# Altium integrated library ON Semi Signal Management Digital POTs.IntLib: 284 symbols (part 7 of 11)
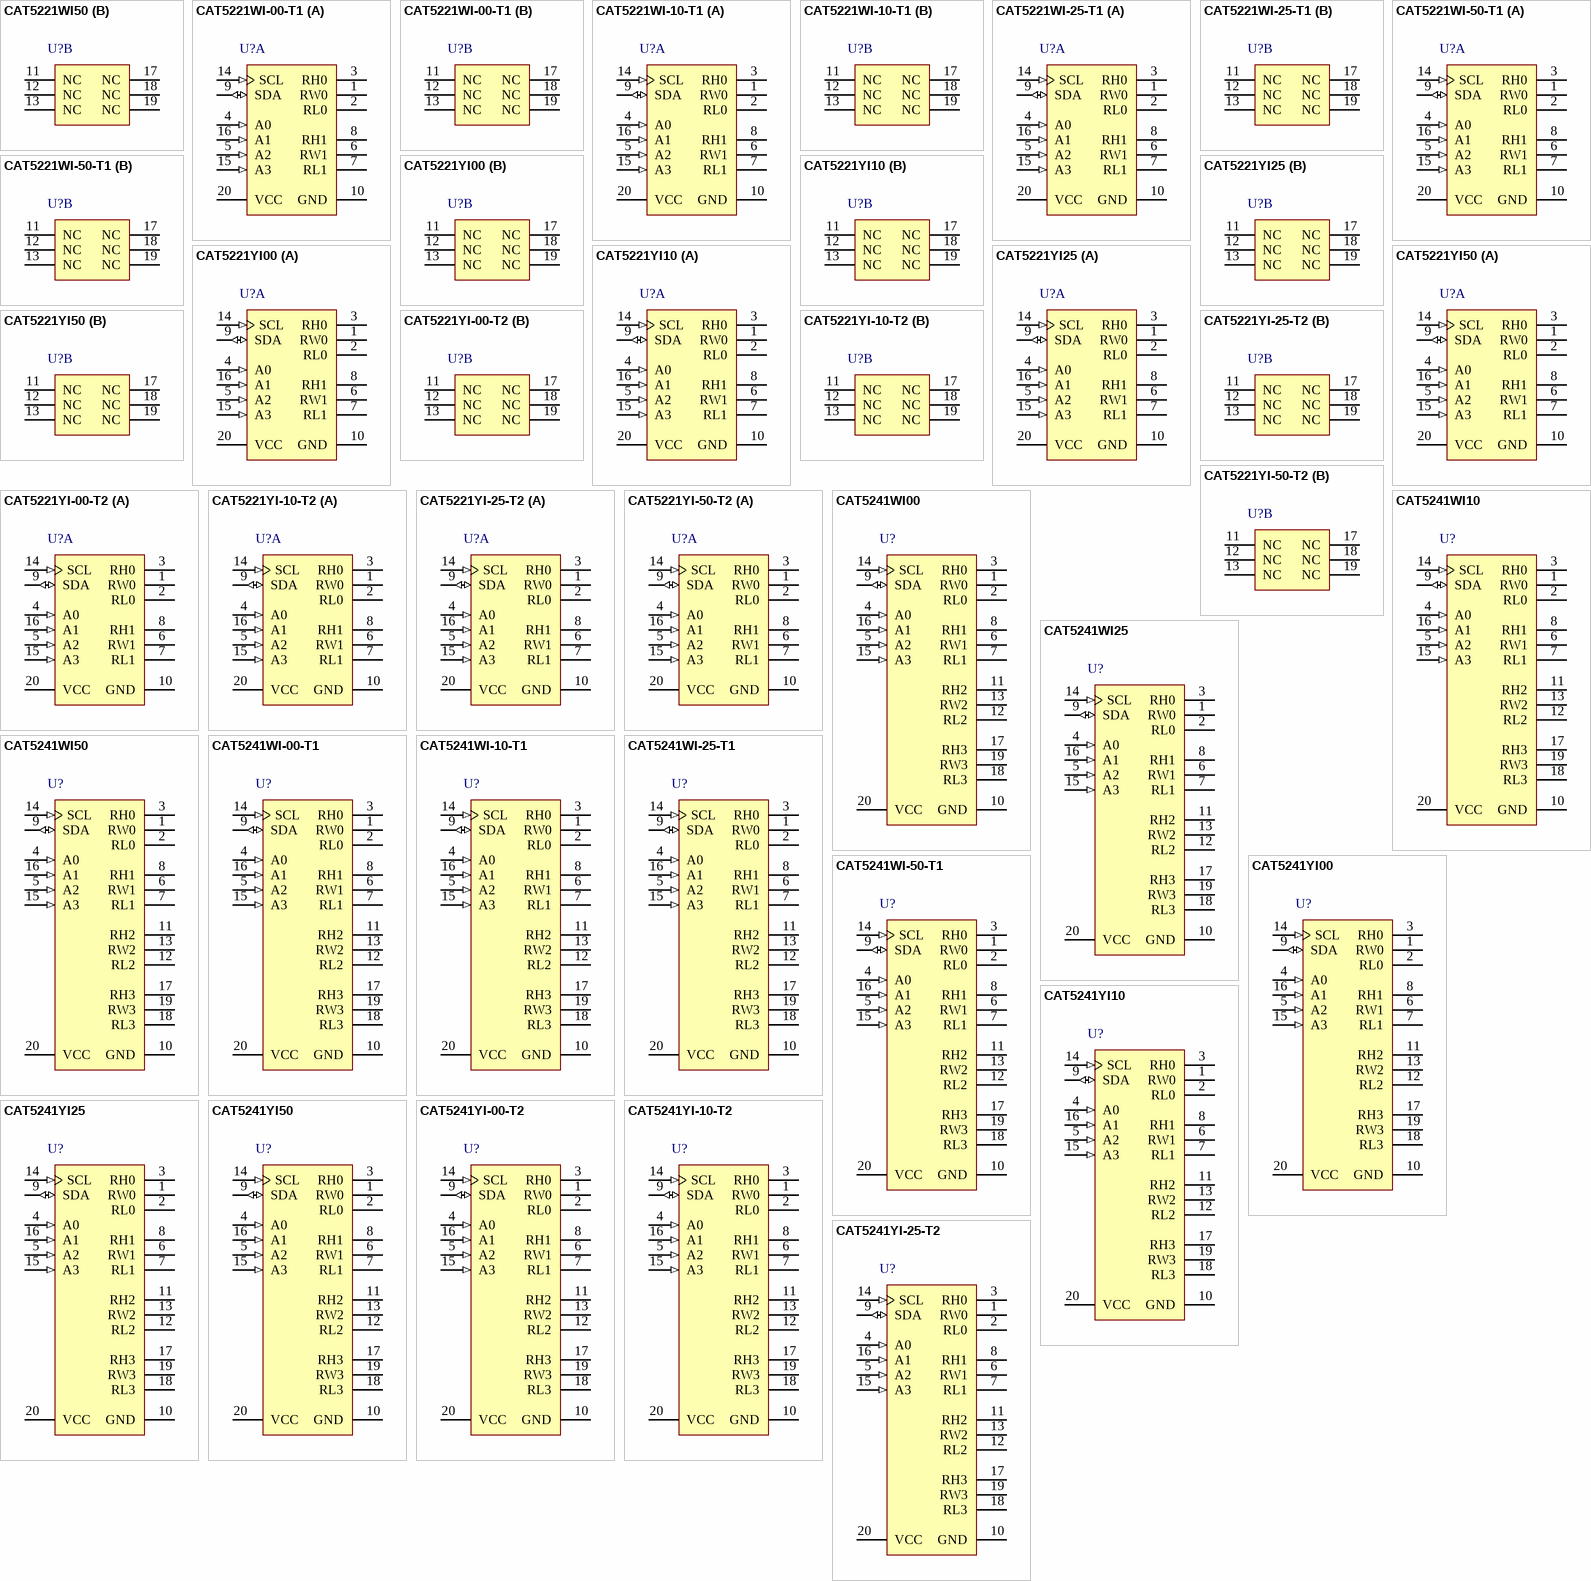
[diagram p15: symbols CAT5221WI50 to CAT5241YI-25-T2]

## CAT5241YI25
designator U?
Quad Digital Potentiometer (POT) with 64 Tap and I2C Interface, -40 to 85 degC, 20-Pin TSSOP, Pb-Free, Tube; Manufacturer: On Semiconductor; PartNumber: CAT5241YI25; # of Pots: 4; # of Taps: 64; VDD Max (V): 6; DatasheetVersion: Rev. 20; PackageVersion: Rev. A, 03/2009; PackageReference: TSSOP-20-948AQ-01; PackageDescription: 20-Pin Small Outline Package, Body 6.5 x 4.4 mm, Pitch 0.65 mm; Supplier 1: Mouser; Supplier Part Number 1: 698-CAT5241YI-25; Control Interface: I2C; Packing: Tube; RoHS: TRUE; Type: Potentiometer; Mounting Technology: Surface Mount; Code_JEDEC: MO-153; ComponentLink1Description: Manufacturer URL; ComponentLink1URL: http://www.onsemi.com/; ComponentLink2Description: Datasheet; ComponentLink2URL: http://www.onsemi.cn/pub_link/Collateral/CAT5241-D.PDF; ComponentLink3Description: Package Specification; ComponentLink3URL: http://www.onsemi.cn/pub_link/Collateral/948AQ.PDF
footprint ONSC-TSSOP-20-948AQ-01_N (SOP, 20-Leads, Body 6.6x4.5mm, Pitch 0.65mm, IPC Medium Density)
footprint ONSC-TSSOP-20-948AQ-01_L (SOP, 20-Leads, Body 6.6x4.5mm, Pitch 0.65mm, IPC High Density)
footprint ONSC-TSSOP-20-948AQ-01_M (SOP, 20-Leads, Body 6.6x4.5mm, Pitch 0.65mm, IPC Low Density)
pins: 1 RW0 "Wiper Terminal for Potentiometer 0", 2 RL0 "Low Reference Terminal for Potentiometer 0", 3 RH0 "High Reference Terminal for Potentiometer 0", 4 A0 (in) "Device Address, LSB", 5 A2 (in) "Device Address", 6 RW1 "Wiper Terminal for Potentiometer 1", 7 RL1 "Low Reference Terminal for Potentiometer 1", 8 RH1 "High Reference Terminal for Potentiometer 1", 9 SDA (io) "Serial Data Input/Output", 10 GND (power) "Ground", 11 RH2 "High Reference Terminal for Potentiometer 2", 12 RL2 "Low Reference Terminal for Potentiometer 2", 13 RW2 "Wiper Terminal forPotentiometer 2", 14 SCL (in) "Bus Serial Clock", 15 A3 (in) "Device Address", 16 A1 (in) "Device Address", 17 RH3 "High Reference Terminal for Potentiometer 3", 18 RL3 "Low Reference Terminal for Potentiometer 3", 19 RW3 "Wiper Terminal for Potentiometer 3", 20 VCC (power) "Supply Voltage"

## CAT5241YI50
designator U?
Quad Digital Potentiometer (POT) with 64 Tap and I2C Interface, -40 to 85 degC, 20-Pin TSSOP, Pb-Free, Tube; Manufacturer: On Semiconductor; PartNumber: CAT5241YI50; # of Pots: 4; # of Taps: 64; VDD Max (V): 6; DatasheetVersion: Rev. 20; PackageVersion: Rev. A, 03/2009; PackageReference: TSSOP-20-948AQ-01; PackageDescription: 20-Pin Small Outline Package, Body 6.5 x 4.4 mm, Pitch 0.65 mm; Supplier 1: Mouser; Supplier Part Number 1: 698-CAT5241YI-50; Control Interface: I2C; Packing: Tube; RoHS: TRUE; Type: Potentiometer; Mounting Technology: Surface Mount; Code_JEDEC: MO-153; ComponentLink1Description: Manufacturer URL; ComponentLink1URL: http://www.onsemi.com/; ComponentLink2Description: Datasheet; ComponentLink2URL: http://www.onsemi.cn/pub_link/Collateral/CAT5241-D.PDF; ComponentLink3Description: Package Specification; ComponentLink3URL: http://www.onsemi.cn/pub_link/Collateral/948AQ.PDF
footprint ONSC-TSSOP-20-948AQ-01_N (SOP, 20-Leads, Body 6.6x4.5mm, Pitch 0.65mm, IPC Medium Density)
footprint ONSC-TSSOP-20-948AQ-01_L (SOP, 20-Leads, Body 6.6x4.5mm, Pitch 0.65mm, IPC High Density)
footprint ONSC-TSSOP-20-948AQ-01_M (SOP, 20-Leads, Body 6.6x4.5mm, Pitch 0.65mm, IPC Low Density)
pins: 1 RW0 "Wiper Terminal for Potentiometer 0", 2 RL0 "Low Reference Terminal for Potentiometer 0", 3 RH0 "High Reference Terminal for Potentiometer 0", 4 A0 (in) "Device Address, LSB", 5 A2 (in) "Device Address", 6 RW1 "Wiper Terminal for Potentiometer 1", 7 RL1 "Low Reference Terminal for Potentiometer 1", 8 RH1 "High Reference Terminal for Potentiometer 1", 9 SDA (io) "Serial Data Input/Output", 10 GND (power) "Ground", 11 RH2 "High Reference Terminal for Potentiometer 2", 12 RL2 "Low Reference Terminal for Potentiometer 2", 13 RW2 "Wiper Terminal forPotentiometer 2", 14 SCL (in) "Bus Serial Clock", 15 A3 (in) "Device Address", 16 A1 (in) "Device Address", 17 RH3 "High Reference Terminal for Potentiometer 3", 18 RL3 "Low Reference Terminal for Potentiometer 3", 19 RW3 "Wiper Terminal for Potentiometer 3", 20 VCC (power) "Supply Voltage"

## CAT5241YI-00-T2
designator U?
Quad Digital Potentiometer (POT) with 64 Tap and I2C Interface, -40 to 85 degC, 20-Pin TSSOP, Pb-Free, Tape and Reel; Manufacturer: On Semiconductor; PartNumber: CAT5241YI-00-T2; # of Pots: 4; # of Taps: 64; VDD Max (V): 6; DatasheetVersion: Rev. 20; PackageVersion: Rev. A, 03/2009; PackageReference: TSSOP-20-948AQ-01; PackageDescription: 20-Pin Small Outline Package, Body 6.5 x 4.4 mm, Pitch 0.65 mm; Supplier 1: Mouser; Supplier Part Number 1: 863-CAT5241YI-00-T2; Control Interface: I2C; Packing: Tape and Reel; RoHS: TRUE; Type: Potentiometer; Mounting Technology: Surface Mount; Code_JEDEC: MO-153; ComponentLink1Description: Manufacturer URL; ComponentLink1URL: http://www.onsemi.com/; ComponentLink2Description: Datasheet; ComponentLink2URL: http://www.onsemi.cn/pub_link/Collateral/CAT5241-D.PDF; ComponentLink3Description: Package Specification; ComponentLink3URL: http://www.onsemi.cn/pub_link/Collateral/948AQ.PDF
footprint ONSC-TSSOP-20-948AQ-01_N (SOP, 20-Leads, Body 6.6x4.5mm, Pitch 0.65mm, IPC Medium Density)
footprint ONSC-TSSOP-20-948AQ-01_L (SOP, 20-Leads, Body 6.6x4.5mm, Pitch 0.65mm, IPC High Density)
footprint ONSC-TSSOP-20-948AQ-01_M (SOP, 20-Leads, Body 6.6x4.5mm, Pitch 0.65mm, IPC Low Density)
pins: 1 RW0 "Wiper Terminal for Potentiometer 0", 2 RL0 "Low Reference Terminal for Potentiometer 0", 3 RH0 "High Reference Terminal for Potentiometer 0", 4 A0 (in) "Device Address, LSB", 5 A2 (in) "Device Address", 6 RW1 "Wiper Terminal for Potentiometer 1", 7 RL1 "Low Reference Terminal for Potentiometer 1", 8 RH1 "High Reference Terminal for Potentiometer 1", 9 SDA (io) "Serial Data Input/Output", 10 GND (power) "Ground", 11 RH2 "High Reference Terminal for Potentiometer 2", 12 RL2 "Low Reference Terminal for Potentiometer 2", 13 RW2 "Wiper Terminal forPotentiometer 2", 14 SCL (in) "Bus Serial Clock", 15 A3 (in) "Device Address", 16 A1 (in) "Device Address", 17 RH3 "High Reference Terminal for Potentiometer 3", 18 RL3 "Low Reference Terminal for Potentiometer 3", 19 RW3 "Wiper Terminal for Potentiometer 3", 20 VCC (power) "Supply Voltage"

## CAT5241YI-10-T2
designator U?
Quad Digital Potentiometer (POT) with 64 Tap and I2C Interface, -40 to 85 degC, 20-Pin TSSOP, Pb-Free, Tape and Reel; Manufacturer: On Semiconductor; PartNumber: CAT5241YI-10-T2; # of Pots: 4; # of Taps: 64; VDD Max (V): 6; DatasheetVersion: Rev. 20; PackageVersion: Rev. A, 03/2009; PackageReference: TSSOP-20-948AQ-01; PackageDescription: 20-Pin Small Outline Package, Body 6.5 x 4.4 mm, Pitch 0.65 mm; Supplier 1: Mouser; Supplier Part Number 1: 863-CAT5241YI-10-T2; Control Interface: I2C; Packing: Tape and Reel; RoHS: TRUE; Type: Potentiometer; Mounting Technology: Surface Mount; Code_JEDEC: MO-153; ComponentLink1Description: Manufacturer URL; ComponentLink1URL: http://www.onsemi.com/; ComponentLink2Description: Datasheet; ComponentLink2URL: http://www.onsemi.cn/pub_link/Collateral/CAT5241-D.PDF; ComponentLink3Description: Package Specification; ComponentLink3URL: http://www.onsemi.cn/pub_link/Collateral/948AQ.PDF
footprint ONSC-TSSOP-20-948AQ-01_N (SOP, 20-Leads, Body 6.6x4.5mm, Pitch 0.65mm, IPC Medium Density)
footprint ONSC-TSSOP-20-948AQ-01_L (SOP, 20-Leads, Body 6.6x4.5mm, Pitch 0.65mm, IPC High Density)
footprint ONSC-TSSOP-20-948AQ-01_M (SOP, 20-Leads, Body 6.6x4.5mm, Pitch 0.65mm, IPC Low Density)
pins: 1 RW0 "Wiper Terminal for Potentiometer 0", 2 RL0 "Low Reference Terminal for Potentiometer 0", 3 RH0 "High Reference Terminal for Potentiometer 0", 4 A0 (in) "Device Address, LSB", 5 A2 (in) "Device Address", 6 RW1 "Wiper Terminal for Potentiometer 1", 7 RL1 "Low Reference Terminal for Potentiometer 1", 8 RH1 "High Reference Terminal for Potentiometer 1", 9 SDA (io) "Serial Data Input/Output", 10 GND (power) "Ground", 11 RH2 "High Reference Terminal for Potentiometer 2", 12 RL2 "Low Reference Terminal for Potentiometer 2", 13 RW2 "Wiper Terminal forPotentiometer 2", 14 SCL (in) "Bus Serial Clock", 15 A3 (in) "Device Address", 16 A1 (in) "Device Address", 17 RH3 "High Reference Terminal for Potentiometer 3", 18 RL3 "Low Reference Terminal for Potentiometer 3", 19 RW3 "Wiper Terminal for Potentiometer 3", 20 VCC (power) "Supply Voltage"

## CAT5241YI-25-T2
designator U?
Quad Digital Potentiometer (POT) with 64 Tap and I2C Interface, -40 to 85 degC, 20-Pin TSSOP, Pb-Free, Tape and Reel; Manufacturer: On Semiconductor; PartNumber: CAT5241YI-25-T2; # of Pots: 4; # of Taps: 64; VDD Max (V): 6; DatasheetVersion: Rev. 20; PackageVersion: Rev. A, 03/2009; PackageReference: TSSOP-20-948AQ-01; PackageDescription: 20-Pin Small Outline Package, Body 6.5 x 4.4 mm, Pitch 0.65 mm; Supplier 1: Mouser; Supplier Part Number 1: 863-CAT5241YI-25-T2; Control Interface: I2C; Packing: Tape and Reel; RoHS: TRUE; Type: Potentiometer; Mounting Technology: Surface Mount; Code_JEDEC: MO-153; ComponentLink1Description: Manufacturer URL; ComponentLink1URL: http://www.onsemi.com/; ComponentLink2Description: Datasheet; ComponentLink2URL: http://www.onsemi.cn/pub_link/Collateral/CAT5241-D.PDF; ComponentLink3Description: Package Specification; ComponentLink3URL: http://www.onsemi.cn/pub_link/Collateral/948AQ.PDF
footprint ONSC-TSSOP-20-948AQ-01_N (SOP, 20-Leads, Body 6.6x4.5mm, Pitch 0.65mm, IPC Medium Density)
footprint ONSC-TSSOP-20-948AQ-01_L (SOP, 20-Leads, Body 6.6x4.5mm, Pitch 0.65mm, IPC High Density)
footprint ONSC-TSSOP-20-948AQ-01_M (SOP, 20-Leads, Body 6.6x4.5mm, Pitch 0.65mm, IPC Low Density)
pins: 1 RW0 "Wiper Terminal for Potentiometer 0", 2 RL0 "Low Reference Terminal for Potentiometer 0", 3 RH0 "High Reference Terminal for Potentiometer 0", 4 A0 (in) "Device Address, LSB", 5 A2 (in) "Device Address", 6 RW1 "Wiper Terminal for Potentiometer 1", 7 RL1 "Low Reference Terminal for Potentiometer 1", 8 RH1 "High Reference Terminal for Potentiometer 1", 9 SDA (io) "Serial Data Input/Output", 10 GND (power) "Ground", 11 RH2 "High Reference Terminal for Potentiometer 2", 12 RL2 "Low Reference Terminal for Potentiometer 2", 13 RW2 "Wiper Terminal forPotentiometer 2", 14 SCL (in) "Bus Serial Clock", 15 A3 (in) "Device Address", 16 A1 (in) "Device Address", 17 RH3 "High Reference Terminal for Potentiometer 3", 18 RL3 "Low Reference Terminal for Potentiometer 3", 19 RW3 "Wiper Terminal for Potentiometer 3", 20 VCC (power) "Supply Voltage"

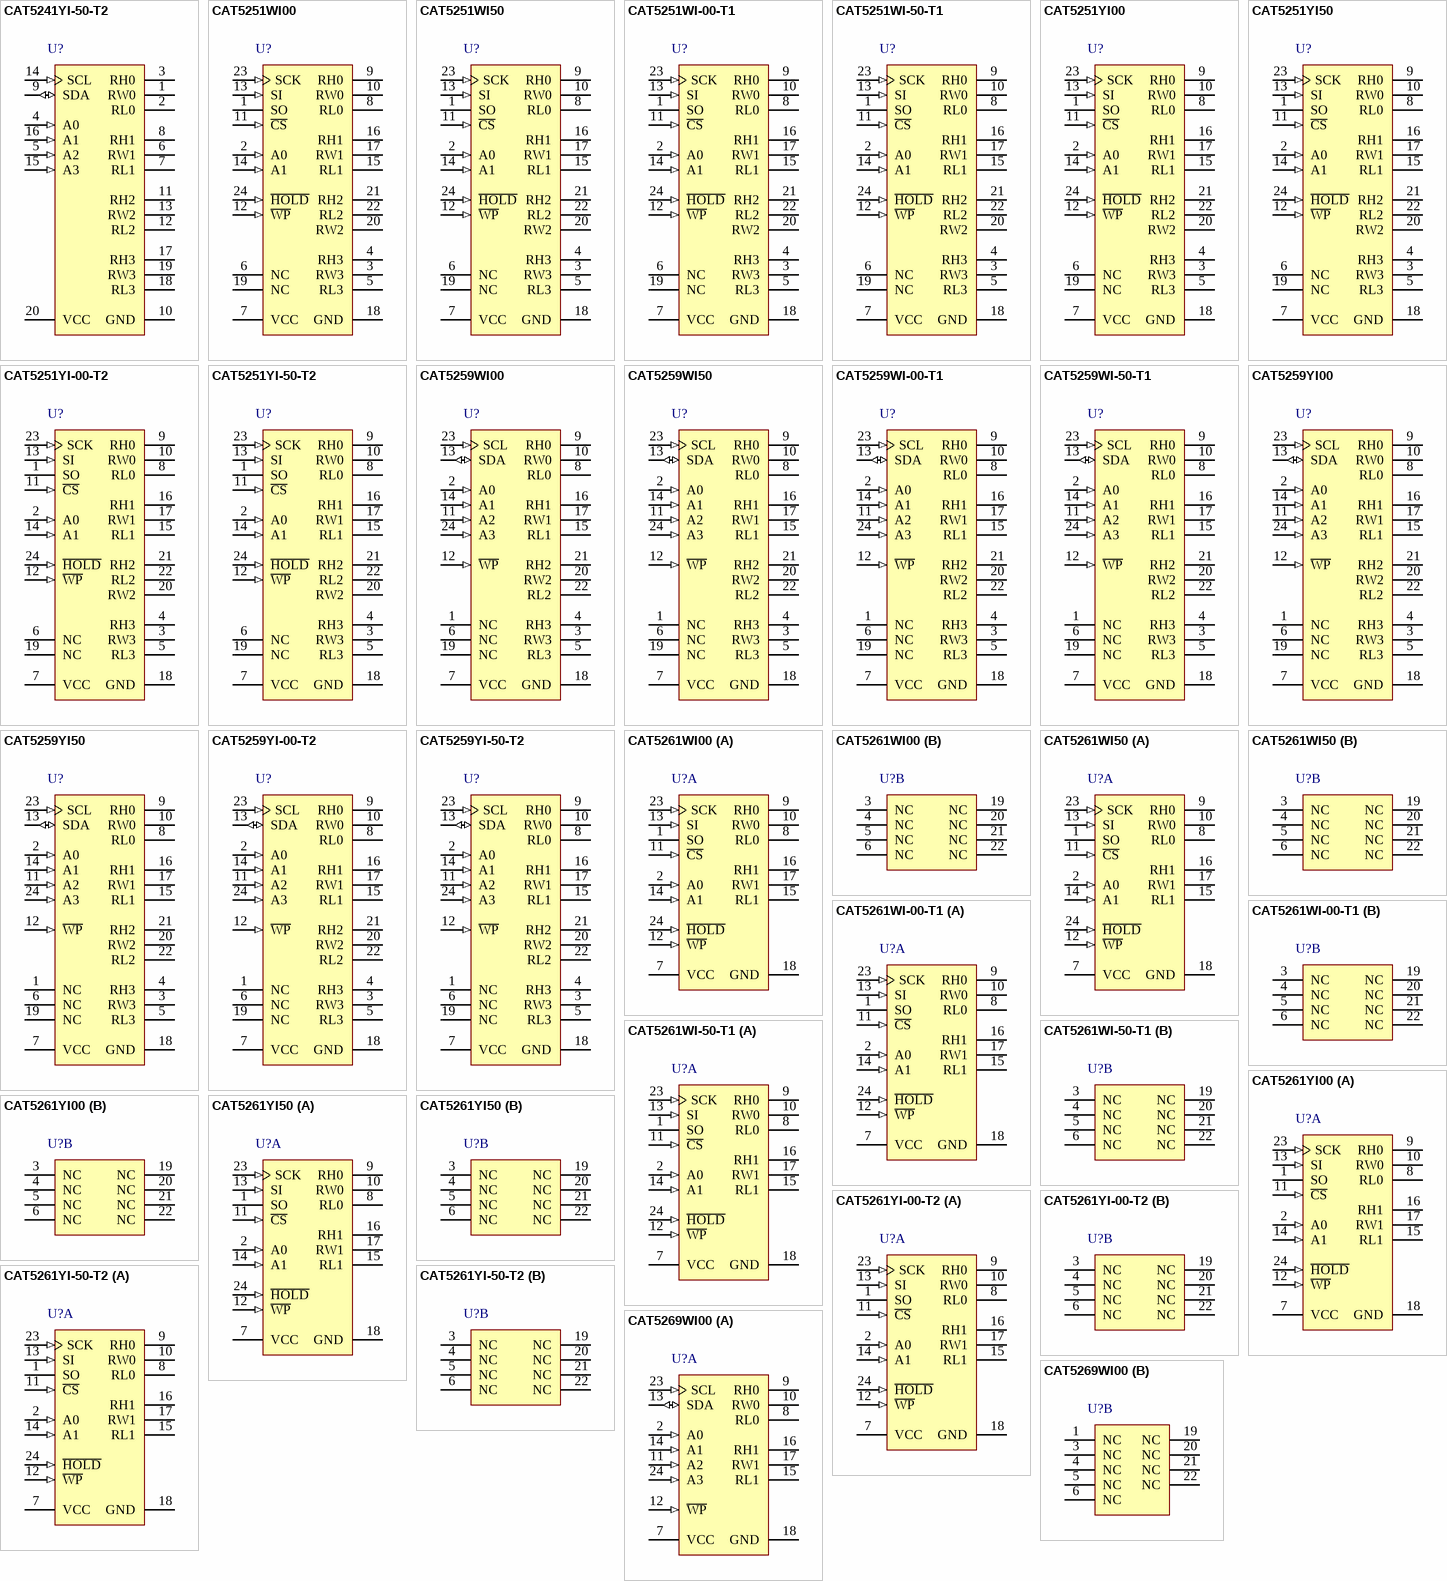
[diagram p5: symbols CAT5241YI-50-T2 to CAT5269WI00]

## CAT5241YI-50-T2
designator U?
Quad Digital Potentiometer (POT) with 64 Tap and I2C Interface, -40 to 85 degC, 20-Pin TSSOP, Pb-Free, Tape and Reel; Manufacturer: On Semiconductor; PartNumber: CAT5241YI-50-T2; # of Pots: 4; # of Taps: 64; VDD Max (V): 6; DatasheetVersion: Rev. 20; PackageVersion: Rev. A, 03/2009; PackageReference: TSSOP-20-948AQ-01; PackageDescription: 20-Pin Small Outline Package, Body 6.5 x 4.4 mm, Pitch 0.65 mm; Supplier 1: Newark; Supplier Part Number 1: 63R1986; Supplier 2: Mouser; Supplier Part Number 2: 863-CAT5241YI-50-T2; Control Interface: I2C; Packing: Tape and Reel; RoHS: TRUE; Type: Potentiometer; Mounting Technology: Surface Mount; Code_JEDEC: MO-153; ComponentLink1Description: Manufacturer URL; ComponentLink1URL: http://www.onsemi.com/; ComponentLink2Description: Datasheet; ComponentLink2URL: http://www.onsemi.cn/pub_link/Collateral/CAT5241-D.PDF; ComponentLink3Description: Package Specification; ComponentLink3URL: http://www.onsemi.cn/pub_link/Collateral/948AQ.PDF
footprint ONSC-TSSOP-20-948AQ-01_N (SOP, 20-Leads, Body 6.6x4.5mm, Pitch 0.65mm, IPC Medium Density)
footprint ONSC-TSSOP-20-948AQ-01_L (SOP, 20-Leads, Body 6.6x4.5mm, Pitch 0.65mm, IPC High Density)
footprint ONSC-TSSOP-20-948AQ-01_M (SOP, 20-Leads, Body 6.6x4.5mm, Pitch 0.65mm, IPC Low Density)
pins: 1 RW0 "Wiper Terminal for Potentiometer 0", 2 RL0 "Low Reference Terminal for Potentiometer 0", 3 RH0 "High Reference Terminal for Potentiometer 0", 4 A0 (in) "Device Address, LSB", 5 A2 (in) "Device Address", 6 RW1 "Wiper Terminal for Potentiometer 1", 7 RL1 "Low Reference Terminal for Potentiometer 1", 8 RH1 "High Reference Terminal for Potentiometer 1", 9 SDA (io) "Serial Data Input/Output", 10 GND (power) "Ground", 11 RH2 "High Reference Terminal for Potentiometer 2", 12 RL2 "Low Reference Terminal for Potentiometer 2", 13 RW2 "Wiper Terminal forPotentiometer 2", 14 SCL (in) "Bus Serial Clock", 15 A3 (in) "Device Address", 16 A1 (in) "Device Address", 17 RH3 "High Reference Terminal for Potentiometer 3", 18 RL3 "Low Reference Terminal for Potentiometer 3", 19 RW3 "Wiper Terminal for Potentiometer 3", 20 VCC (power) "Supply Voltage"

## CAT5251WI00
designator U?
Quad Digital Potentiometer (POT) with 256 Tap and SPI Interface, -40 to 85 degC, 24-Pin SOIC, Pb-Free, Tube; Manufacturer: On Semiconductor; PartNumber: CAT5251WI00; # of Pots: 4; # of Taps: 256; VDD Max (V): 6; DatasheetVersion: Rev. 9; PackageVersion: Rev. O, 12/2008; PackageReference: SOIC-24-751BK-01; PackageDescription: 24-Pin Small Outline Integrated Circuit, Body 15.3 x 7.47 mm, Pitch 1.27 mm; Control Interface: SPI; Packing: Tube; RoHS: TRUE; Type: Potentiometer; Mounting Technology: Surface Mount; Code_JEDEC: MS-013; ComponentLink1Description: Manufacturer URL; ComponentLink1URL: http://www.onsemi.com/; ComponentLink2Description: Datasheet; ComponentLink2URL: http://www.onsemi.cn/pub_link/Collateral/CAT5251-D.PDF; ComponentLink3Description: Package Specification; ComponentLink3URL: http://www.onsemi.com/pub/Collateral/751BK.PDF
footprint ONSC-SOIC-24-751BK-01_N (SOIC, 24-Leads, Body 15.4x7.6mm, Pitch 1.27mm, IPC Medium Density)
footprint ONSC-SOIC-24-751BK-01_L (SOIC, 24-Leads, Body 15.4x7.6mm, Pitch 1.27mm, IPC High Density)
footprint ONSC-SOIC-24-751BK-01_M (SOIC, 24-Leads, Body 15.4x7.6mm, Pitch 1.27mm, IPC Low Density)
pins: 1 SO (hiz) "Serial Data Output", 2 A0 (in) "Device Address, LSB", 3 RW3 "Wiper Terminal for Potentiometer 3", 4 RH3 "High Reference Terminal for Potentiometer 3", 5 RL3 "Low Reference Terminal for Potentiometer 3", 6 NC "No Connect", 7 VCC (power) "Supply Voltage", 8 RL0 "Low Reference Terminal for Potentiometer 0", 9 RH0 "High Reference Terminal for Potentiometer 0", 10 RW0 "Wiper Terminal for Potentiometer 0", 11 ~{CS} (in) "Chip Select", 12 ~{WP} (in) "Write Protection", 13 SI (in) "Serial Input", 14 A1 (in) "Device Address", 15 RL1 "Low Reference Terminal for Potentiometer 1", 16 RH1 "High Reference Terminal for Potentiometer 1", 17 RW1 "Wiper Terminal for Potentiometer 1", 18 GND (power) "Ground", 19 NC "No Connect", 20 RW2 "Wiper Terminal forPotentiometer 2", 21 RH2 "High Reference Terminal for Potentiometer 2", 22 RL2 "Low Reference Terminal for Potentiometer 2", 23 SCK (in) "Bus Serial Clock", 24 ~{HOLD} (in) "Hold"

## CAT5251WI50
designator U?
Quad Digital Potentiometer (POT) with 256 Tap and SPI Interface, -40 to 85 degC, 24-Pin SOIC, Pb-Free, Tube; Manufacturer: On Semiconductor; PartNumber: CAT5251WI50; # of Pots: 4; # of Taps: 256; VDD Max (V): 6; DatasheetVersion: Rev. 9; PackageVersion: Rev. O, 12/2008; PackageReference: SOIC-24-751BK-01; PackageDescription: 24-Pin Small Outline Integrated Circuit, Body 15.3 x 7.47 mm, Pitch 1.27 mm; Supplier 1: Mouser; Supplier Part Number 1: 698-CAT5251WI-50; Control Interface: SPI; Packing: Tube; RoHS: TRUE; Type: Potentiometer; Mounting Technology: Surface Mount; Code_JEDEC: MS-013; ComponentLink1Description: Manufacturer URL; ComponentLink1URL: http://www.onsemi.com/; ComponentLink2Description: Datasheet; ComponentLink2URL: http://www.onsemi.cn/pub_link/Collateral/CAT5251-D.PDF; ComponentLink3Description: Package Specification; ComponentLink3URL: http://www.onsemi.com/pub/Collateral/751BK.PDF
footprint ONSC-SOIC-24-751BK-01_N (SOIC, 24-Leads, Body 15.4x7.6mm, Pitch 1.27mm, IPC Medium Density)
footprint ONSC-SOIC-24-751BK-01_L (SOIC, 24-Leads, Body 15.4x7.6mm, Pitch 1.27mm, IPC High Density)
footprint ONSC-SOIC-24-751BK-01_M (SOIC, 24-Leads, Body 15.4x7.6mm, Pitch 1.27mm, IPC Low Density)
pins: 1 SO (hiz) "Serial Data Output", 2 A0 (in) "Device Address, LSB", 3 RW3 "Wiper Terminal for Potentiometer 3", 4 RH3 "High Reference Terminal for Potentiometer 3", 5 RL3 "Low Reference Terminal for Potentiometer 3", 6 NC "No Connect", 7 VCC (power) "Supply Voltage", 8 RL0 "Low Reference Terminal for Potentiometer 0", 9 RH0 "High Reference Terminal for Potentiometer 0", 10 RW0 "Wiper Terminal for Potentiometer 0", 11 ~{CS} (in) "Chip Select", 12 ~{WP} (in) "Write Protection", 13 SI (in) "Serial Input", 14 A1 (in) "Device Address", 15 RL1 "Low Reference Terminal for Potentiometer 1", 16 RH1 "High Reference Terminal for Potentiometer 1", 17 RW1 "Wiper Terminal for Potentiometer 1", 18 GND (power) "Ground", 19 NC "No Connect", 20 RW2 "Wiper Terminal forPotentiometer 2", 21 RH2 "High Reference Terminal for Potentiometer 2", 22 RL2 "Low Reference Terminal for Potentiometer 2", 23 SCK (in) "Bus Serial Clock", 24 ~{HOLD} (in) "Hold"

## CAT5251WI-00-T1
designator U?
Quad Digital Potentiometer (POT) with 256 Tap and SPI Interface, -40 to 85 degC, 24-Pin SOIC, Pb-Free, Tape and Reel; Manufacturer: On Semiconductor; PartNumber: CAT5251WI-00-T1; # of Pots: 4; # of Taps: 256; VDD Max (V): 6; DatasheetVersion: Rev. 9; PackageVersion: Rev. O, 12/2008; PackageReference: SOIC-24-751BK-01; PackageDescription: 24-Pin Small Outline Integrated Circuit, Body 15.3 x 7.47 mm, Pitch 1.27 mm; Supplier 1: Digi-Key; Supplier Part Number 1: CAT5251WI-00-T1-ND; Supplier 2: Mouser; Supplier Part Number 2: 863-CAT5251WI-00-T1; Control Interface: SPI; Packing: Tape and Reel; RoHS: TRUE; Type: Potentiometer; Mounting Technology: Surface Mount; Code_JEDEC: MS-013; ComponentLink1Description: Manufacturer URL; ComponentLink1URL: http://www.onsemi.com/; ComponentLink2Description: Datasheet; ComponentLink2URL: http://www.onsemi.cn/pub_link/Collateral/CAT5251-D.PDF; ComponentLink3Description: Package Specification; ComponentLink3URL: http://www.onsemi.com/pub/Collateral/751BK.PDF
footprint ONSC-SOIC-24-751BK-01_N (SOIC, 24-Leads, Body 15.4x7.6mm, Pitch 1.27mm, IPC Medium Density)
footprint ONSC-SOIC-24-751BK-01_L (SOIC, 24-Leads, Body 15.4x7.6mm, Pitch 1.27mm, IPC High Density)
footprint ONSC-SOIC-24-751BK-01_M (SOIC, 24-Leads, Body 15.4x7.6mm, Pitch 1.27mm, IPC Low Density)
pins: 1 SO (hiz) "Serial Data Output", 2 A0 (in) "Device Address, LSB", 3 RW3 "Wiper Terminal for Potentiometer 3", 4 RH3 "High Reference Terminal for Potentiometer 3", 5 RL3 "Low Reference Terminal for Potentiometer 3", 6 NC "No Connect", 7 VCC (power) "Supply Voltage", 8 RL0 "Low Reference Terminal for Potentiometer 0", 9 RH0 "High Reference Terminal for Potentiometer 0", 10 RW0 "Wiper Terminal for Potentiometer 0", 11 ~{CS} (in) "Chip Select", 12 ~{WP} (in) "Write Protection", 13 SI (in) "Serial Input", 14 A1 (in) "Device Address", 15 RL1 "Low Reference Terminal for Potentiometer 1", 16 RH1 "High Reference Terminal for Potentiometer 1", 17 RW1 "Wiper Terminal for Potentiometer 1", 18 GND (power) "Ground", 19 NC "No Connect", 20 RW2 "Wiper Terminal forPotentiometer 2", 21 RH2 "High Reference Terminal for Potentiometer 2", 22 RL2 "Low Reference Terminal for Potentiometer 2", 23 SCK (in) "Bus Serial Clock", 24 ~{HOLD} (in) "Hold"

## CAT5251WI-50-T1
designator U?
Quad Digital Potentiometer (POT) with 256 Tap and SPI Interface, -40 to 85 degC, 24-Pin SOIC, Pb-Free, Tape and Reel; Manufacturer: On Semiconductor; PartNumber: CAT5251WI-50-T1; # of Pots: 4; # of Taps: 256; VDD Max (V): 6; DatasheetVersion: Rev. 9; PackageVersion: Rev. O, 12/2008; PackageReference: SOIC-24-751BK-01; PackageDescription: 24-Pin Small Outline Integrated Circuit, Body 15.3 x 7.47 mm, Pitch 1.27 mm; Supplier 1: Digi-Key; Supplier Part Number 1: CAT5251WI-50-T1-ND; Supplier 2: Mouser; Supplier Part Number 2: 863-CAT5251WI-50-T1; Control Interface: SPI; Packing: Tape and Reel; RoHS: TRUE; Type: Potentiometer; Mounting Technology: Surface Mount; Code_JEDEC: MS-013; ComponentLink1Description: Manufacturer URL; ComponentLink1URL: http://www.onsemi.com/; ComponentLink2Description: Datasheet; ComponentLink2URL: http://www.onsemi.cn/pub_link/Collateral/CAT5251-D.PDF; ComponentLink3Description: Package Specification; ComponentLink3URL: http://www.onsemi.com/pub/Collateral/751BK.PDF
footprint ONSC-SOIC-24-751BK-01_N (SOIC, 24-Leads, Body 15.4x7.6mm, Pitch 1.27mm, IPC Medium Density)
footprint ONSC-SOIC-24-751BK-01_L (SOIC, 24-Leads, Body 15.4x7.6mm, Pitch 1.27mm, IPC High Density)
footprint ONSC-SOIC-24-751BK-01_M (SOIC, 24-Leads, Body 15.4x7.6mm, Pitch 1.27mm, IPC Low Density)
pins: 1 SO (hiz) "Serial Data Output", 2 A0 (in) "Device Address, LSB", 3 RW3 "Wiper Terminal for Potentiometer 3", 4 RH3 "High Reference Terminal for Potentiometer 3", 5 RL3 "Low Reference Terminal for Potentiometer 3", 6 NC "No Connect", 7 VCC (power) "Supply Voltage", 8 RL0 "Low Reference Terminal for Potentiometer 0", 9 RH0 "High Reference Terminal for Potentiometer 0", 10 RW0 "Wiper Terminal for Potentiometer 0", 11 ~{CS} (in) "Chip Select", 12 ~{WP} (in) "Write Protection", 13 SI (in) "Serial Input", 14 A1 (in) "Device Address", 15 RL1 "Low Reference Terminal for Potentiometer 1", 16 RH1 "High Reference Terminal for Potentiometer 1", 17 RW1 "Wiper Terminal for Potentiometer 1", 18 GND (power) "Ground", 19 NC "No Connect", 20 RW2 "Wiper Terminal forPotentiometer 2", 21 RH2 "High Reference Terminal for Potentiometer 2", 22 RL2 "Low Reference Terminal for Potentiometer 2", 23 SCK (in) "Bus Serial Clock", 24 ~{HOLD} (in) "Hold"

## CAT5251YI00
designator U?
Quad Digital Potentiometer (POT) with 256 Tap and SPI Interface, -40 to 85 degC, 24-Pin TSSOP, Pb-Free, Tube; Manufacturer: On Semiconductor; PartNumber: CAT5251YI00; # of Pots: 4; # of Taps: 256; VDD Max (V): 6; DatasheetVersion: Rev. 9; PackageVersion: Rev. A, 03/2009; PackageReference: TSSOP-24-948AR-01; PackageDescription: 24-Pin Small Outline Package, Body 7.8 x 4.4 mm, Pitch 0.65 mm; Supplier 1: Mouser; Supplier Part Number 1: 698-CAT5251YI-00; Control Interface: SPI; Packing: Tube; RoHS: TRUE; Type: Potentiometer; Mounting Technology: Surface Mount; Code_JEDEC: MO-153; ComponentLink1Description: Manufacturer URL; ComponentLink1URL: http://www.onsemi.com/; ComponentLink2Description: Datasheet; ComponentLink2URL: http://www.onsemi.cn/pub_link/Collateral/CAT5251-D.PDF; ComponentLink3Description: Package Specification; ComponentLink3URL: http://www.onsemi.com/pub_link/Collateral/948AR.PDF
footprint ONSC-TSSOP-24-948AR-01_N (SOP, 24-Leads, Body 7.9x4.5mm, Pitch 0.65mm, IPC Medium Density)
footprint ONSC-TSSOP-24-948AR-01_L (SOP, 24-Leads, Body 7.9x4.5mm, Pitch 0.65mm, IPC High Density)
footprint ONSC-TSSOP-24-948AR-01_M (SOP, 24-Leads, Body 7.9x4.5mm, Pitch 0.65mm, IPC Low Density)
pins: 1 SO (hiz) "Serial Data Output", 2 A0 (in) "Device Address, LSB", 3 RW3 "Wiper Terminal for Potentiometer 3", 4 RH3 "High Reference Terminal for Potentiometer 3", 5 RL3 "Low Reference Terminal for Potentiometer 3", 6 NC "No Connect", 7 VCC (power) "Supply Voltage", 8 RL0 "Low Reference Terminal for Potentiometer 0", 9 RH0 "High Reference Terminal for Potentiometer 0", 10 RW0 "Wiper Terminal for Potentiometer 0", 11 ~{CS} (in) "Chip Select", 12 ~{WP} (in) "Write Protection", 13 SI (in) "Serial Input", 14 A1 (in) "Device Address", 15 RL1 "Low Reference Terminal for Potentiometer 1", 16 RH1 "High Reference Terminal for Potentiometer 1", 17 RW1 "Wiper Terminal for Potentiometer 1", 18 GND (power) "Ground", 19 NC "No Connect", 20 RW2 "Wiper Terminal forPotentiometer 2", 21 RH2 "High Reference Terminal for Potentiometer 2", 22 RL2 "Low Reference Terminal for Potentiometer 2", 23 SCK (in) "Bus Serial Clock", 24 ~{HOLD} (in) "Hold"

## CAT5251YI50
designator U?
Quad Digital Potentiometer (POT) with 256 Tap and SPI Interface, -40 to 85 degC, 24-Pin TSSOP, Pb-Free, Tube; Manufacturer: On Semiconductor; PartNumber: CAT5251YI50; # of Pots: 4; # of Taps: 256; VDD Max (V): 6; DatasheetVersion: Rev. 9; PackageVersion: Rev. A, 03/2009; PackageReference: TSSOP-24-948AR-01; PackageDescription: 24-Pin Small Outline Package, Body 7.8 x 4.4 mm, Pitch 0.65 mm; Supplier 1: Mouser; Supplier Part Number 1: 698-CAT5251YI-50; Control Interface: SPI; Packing: Tube; RoHS: TRUE; Type: Potentiometer; Mounting Technology: Surface Mount; Code_JEDEC: MO-153; ComponentLink1Description: Manufacturer URL; ComponentLink1URL: http://www.onsemi.com/; ComponentLink2Description: Datasheet; ComponentLink2URL: http://www.onsemi.cn/pub_link/Collateral/CAT5251-D.PDF; ComponentLink3Description: Package Specification; ComponentLink3URL: http://www.onsemi.com/pub_link/Collateral/948AR.PDF
footprint ONSC-TSSOP-24-948AR-01_N (SOP, 24-Leads, Body 7.9x4.5mm, Pitch 0.65mm, IPC Medium Density)
footprint ONSC-TSSOP-24-948AR-01_L (SOP, 24-Leads, Body 7.9x4.5mm, Pitch 0.65mm, IPC High Density)
footprint ONSC-TSSOP-24-948AR-01_M (SOP, 24-Leads, Body 7.9x4.5mm, Pitch 0.65mm, IPC Low Density)
pins: 1 SO (hiz) "Serial Data Output", 2 A0 (in) "Device Address, LSB", 3 RW3 "Wiper Terminal for Potentiometer 3", 4 RH3 "High Reference Terminal for Potentiometer 3", 5 RL3 "Low Reference Terminal for Potentiometer 3", 6 NC "No Connect", 7 VCC (power) "Supply Voltage", 8 RL0 "Low Reference Terminal for Potentiometer 0", 9 RH0 "High Reference Terminal for Potentiometer 0", 10 RW0 "Wiper Terminal for Potentiometer 0", 11 ~{CS} (in) "Chip Select", 12 ~{WP} (in) "Write Protection", 13 SI (in) "Serial Input", 14 A1 (in) "Device Address", 15 RL1 "Low Reference Terminal for Potentiometer 1", 16 RH1 "High Reference Terminal for Potentiometer 1", 17 RW1 "Wiper Terminal for Potentiometer 1", 18 GND (power) "Ground", 19 NC "No Connect", 20 RW2 "Wiper Terminal forPotentiometer 2", 21 RH2 "High Reference Terminal for Potentiometer 2", 22 RL2 "Low Reference Terminal for Potentiometer 2", 23 SCK (in) "Bus Serial Clock", 24 ~{HOLD} (in) "Hold"

## CAT5251YI-00-T2
designator U?
Quad Digital Potentiometer (POT) with 256 Tap and SPI Interface, -40 to 85 degC, 24-Pin TSSOP, Pb-Free, Tape and Reel; Manufacturer: On Semiconductor; PartNumber: CAT5251YI-00-T2; # of Pots: 4; # of Taps: 256; VDD Max (V): 6; DatasheetVersion: Rev. 9; PackageVersion: Rev. A, 03/2009; PackageReference: TSSOP-24-948AR-01; PackageDescription: 24-Pin Small Outline Package, Body 7.8 x 4.4 mm, Pitch 0.65 mm; Supplier 1: Digi-Key; Supplier Part Number 1: CAT5251YI-00-T2-ND; Supplier 2: Mouser; Supplier Part Number 2: 863-CAT5251YI-00-T2; Control Interface: SPI; Packing: Tape and Reel; RoHS: TRUE; Type: Potentiometer; Mounting Technology: Surface Mount; Code_JEDEC: MO-153; ComponentLink1Description: Manufacturer URL; ComponentLink1URL: http://www.onsemi.com/; ComponentLink2Description: Datasheet; ComponentLink2URL: http://www.onsemi.cn/pub_link/Collateral/CAT5251-D.PDF; ComponentLink3Description: Package Specification; ComponentLink3URL: http://www.onsemi.com/pub_link/Collateral/948AR.PDF
footprint ONSC-TSSOP-24-948AR-01_N (SOP, 24-Leads, Body 7.9x4.5mm, Pitch 0.65mm, IPC Medium Density)
footprint ONSC-TSSOP-24-948AR-01_L (SOP, 24-Leads, Body 7.9x4.5mm, Pitch 0.65mm, IPC High Density)
footprint ONSC-TSSOP-24-948AR-01_M (SOP, 24-Leads, Body 7.9x4.5mm, Pitch 0.65mm, IPC Low Density)
pins: 1 SO (hiz) "Serial Data Output", 2 A0 (in) "Device Address, LSB", 3 RW3 "Wiper Terminal for Potentiometer 3", 4 RH3 "High Reference Terminal for Potentiometer 3", 5 RL3 "Low Reference Terminal for Potentiometer 3", 6 NC "No Connect", 7 VCC (power) "Supply Voltage", 8 RL0 "Low Reference Terminal for Potentiometer 0", 9 RH0 "High Reference Terminal for Potentiometer 0", 10 RW0 "Wiper Terminal for Potentiometer 0", 11 ~{CS} (in) "Chip Select", 12 ~{WP} (in) "Write Protection", 13 SI (in) "Serial Input", 14 A1 (in) "Device Address", 15 RL1 "Low Reference Terminal for Potentiometer 1", 16 RH1 "High Reference Terminal for Potentiometer 1", 17 RW1 "Wiper Terminal for Potentiometer 1", 18 GND (power) "Ground", 19 NC "No Connect", 20 RW2 "Wiper Terminal forPotentiometer 2", 21 RH2 "High Reference Terminal for Potentiometer 2", 22 RL2 "Low Reference Terminal for Potentiometer 2", 23 SCK (in) "Bus Serial Clock", 24 ~{HOLD} (in) "Hold"

## CAT5251YI-50-T2
designator U?
Quad Digital Potentiometer (POT) with 256 Tap and SPI Interface, -40 to 85 degC, 24-Pin TSSOP, Pb-Free, Tape and Reel; Manufacturer: On Semiconductor; PartNumber: CAT5251YI-50-T2; # of Pots: 4; # of Taps: 256; VDD Max (V): 6; DatasheetVersion: Rev. 9; PackageVersion: Rev. A, 03/2009; PackageReference: TSSOP-24-948AR-01; PackageDescription: 24-Pin Small Outline Package, Body 7.8 x 4.4 mm, Pitch 0.65 mm; Supplier 1: Digi-Key; Supplier Part Number 1: CAT5251YI-50-T2-ND; Supplier 2: Mouser; Supplier Part Number 2: 863-CAT5251YI-50-T2; Control Interface: SPI; Packing: Tape and Reel; RoHS: TRUE; Type: Potentiometer; Mounting Technology: Surface Mount; Code_JEDEC: MO-153; ComponentLink1Description: Manufacturer URL; ComponentLink1URL: http://www.onsemi.com/; ComponentLink2Description: Datasheet; ComponentLink2URL: http://www.onsemi.cn/pub_link/Collateral/CAT5251-D.PDF; ComponentLink3Description: Package Specification; ComponentLink3URL: http://www.onsemi.com/pub_link/Collateral/948AR.PDF
footprint ONSC-TSSOP-24-948AR-01_N (SOP, 24-Leads, Body 7.9x4.5mm, Pitch 0.65mm, IPC Medium Density)
footprint ONSC-TSSOP-24-948AR-01_L (SOP, 24-Leads, Body 7.9x4.5mm, Pitch 0.65mm, IPC High Density)
footprint ONSC-TSSOP-24-948AR-01_M (SOP, 24-Leads, Body 7.9x4.5mm, Pitch 0.65mm, IPC Low Density)
pins: 1 SO (hiz) "Serial Data Output", 2 A0 (in) "Device Address, LSB", 3 RW3 "Wiper Terminal for Potentiometer 3", 4 RH3 "High Reference Terminal for Potentiometer 3", 5 RL3 "Low Reference Terminal for Potentiometer 3", 6 NC "No Connect", 7 VCC (power) "Supply Voltage", 8 RL0 "Low Reference Terminal for Potentiometer 0", 9 RH0 "High Reference Terminal for Potentiometer 0", 10 RW0 "Wiper Terminal for Potentiometer 0", 11 ~{CS} (in) "Chip Select", 12 ~{WP} (in) "Write Protection", 13 SI (in) "Serial Input", 14 A1 (in) "Device Address", 15 RL1 "Low Reference Terminal for Potentiometer 1", 16 RH1 "High Reference Terminal for Potentiometer 1", 17 RW1 "Wiper Terminal for Potentiometer 1", 18 GND (power) "Ground", 19 NC "No Connect", 20 RW2 "Wiper Terminal forPotentiometer 2", 21 RH2 "High Reference Terminal for Potentiometer 2", 22 RL2 "Low Reference Terminal for Potentiometer 2", 23 SCK (in) "Bus Serial Clock", 24 ~{HOLD} (in) "Hold"

## CAT5259WI00
designator U?
Quad Digital Potentiometer (POT) with 256 Tap and I2C Interface, -40 to 85 degC, 24-Pin SOIC, Pb-Free, Tube; Manufacturer: On Semiconductor; PartNumber: CAT5259WI00; # of Pots: 4; # of Taps: 256; VDD Max (V): 6; DatasheetVersion: Rev. 11; PackageVersion: Rev. O, 12/2008; PackageReference: SOIC-24-751BK-01; PackageDescription: 24-Pin Small Outline Integrated Circuit, Body 15.3 x 7.47 mm, Pitch 1.27 mm; Supplier 1: Mouser; Supplier Part Number 1: 698-CAT5259WI-00; Control Interface: I2C; Packing: Tube; RoHS: TRUE; Type: Potentiometer; Mounting Technology: Surface Mount; Code_JEDEC: MS-013; ComponentLink1Description: Manufacturer URL; ComponentLink1URL: http://www.onsemi.com/; ComponentLink2Description: Datasheet; ComponentLink2URL: http://www.onsemi.cn/pub_link/Collateral/CAT5259-D.PDF; ComponentLink3Description: Package Specification; ComponentLink3URL: http://www.onsemi.com/pub/Collateral/751BK.PDF
footprint ONSC-SOIC-24-751BK-01_N (SOIC, 24-Leads, Body 15.4x7.6mm, Pitch 1.27mm, IPC Medium Density)
footprint ONSC-SOIC-24-751BK-01_L (SOIC, 24-Leads, Body 15.4x7.6mm, Pitch 1.27mm, IPC High Density)
footprint ONSC-SOIC-24-751BK-01_M (SOIC, 24-Leads, Body 15.4x7.6mm, Pitch 1.27mm, IPC Low Density)
pins: 1 NC "No Connect", 2 A0 (in) "Device Address, LSB", 3 RW3 "Wiper Terminal for Potentiometer 3", 4 RH3 "High Reference Terminal for Potentiometer 3", 5 RL3 "Low Reference Terminal for Potentiometer 3", 6 NC "No Connect", 7 VCC (power) "Supply Voltage", 8 RL0 "Low Reference Terminal for Potentiometer 0", 9 RH0 "High Reference Terminal for Potentiometer 0", 10 RW0 "Wiper Terminal for Potentiometer 0", 11 A2 (in) "Device Address", 12 ~{WP} (in) "Write Protection", 13 SDA (io) "Serial Data Input/Output", 14 A1 (in) "Device Address", 15 RL1 "Low Reference Terminal for Potentiometer 1", 16 RH1 "High Reference Terminal for Potentiometer 1", 17 RW1 "Wiper Terminal for Potentiometer 1", 18 GND (power) "Ground", 19 NC "No Connect", 20 RW2 "Wiper Terminal forPotentiometer 2", 21 RH2 "High Reference Terminal for Potentiometer 2", 22 RL2 "Low Reference Terminal for Potentiometer 2", 23 SCL (in) "Bus Serial Clock", 24 A3 (in) "Device Address"

## CAT5259WI50
designator U?
Quad Digital Potentiometer (POT) with 256 Tap and I2C Interface, -40 to 85 degC, 24-Pin SOIC, Pb-Free, Tube; Manufacturer: On Semiconductor; PartNumber: CAT5259WI50; # of Pots: 4; # of Taps: 256; VDD Max (V): 6; DatasheetVersion: Rev. 11; PackageVersion: Rev. O, 12/2008; PackageReference: SOIC-24-751BK-01; PackageDescription: 24-Pin Small Outline Integrated Circuit, Body 15.3 x 7.47 mm, Pitch 1.27 mm; Supplier 1: Mouser; Supplier Part Number 1: 698-CAT5259WI-50; Control Interface: I2C; Packing: Tube; RoHS: TRUE; Type: Potentiometer; Mounting Technology: Surface Mount; Code_JEDEC: MS-013; ComponentLink1Description: Manufacturer URL; ComponentLink1URL: http://www.onsemi.com/; ComponentLink2Description: Datasheet; ComponentLink2URL: http://www.onsemi.cn/pub_link/Collateral/CAT5259-D.PDF; ComponentLink3Description: Package Specification; ComponentLink3URL: http://www.onsemi.com/pub/Collateral/751BK.PDF
footprint ONSC-SOIC-24-751BK-01_N (SOIC, 24-Leads, Body 15.4x7.6mm, Pitch 1.27mm, IPC Medium Density)
footprint ONSC-SOIC-24-751BK-01_L (SOIC, 24-Leads, Body 15.4x7.6mm, Pitch 1.27mm, IPC High Density)
footprint ONSC-SOIC-24-751BK-01_M (SOIC, 24-Leads, Body 15.4x7.6mm, Pitch 1.27mm, IPC Low Density)
pins: 1 NC "No Connect", 2 A0 (in) "Device Address, LSB", 3 RW3 "Wiper Terminal for Potentiometer 3", 4 RH3 "High Reference Terminal for Potentiometer 3", 5 RL3 "Low Reference Terminal for Potentiometer 3", 6 NC "No Connect", 7 VCC (power) "Supply Voltage", 8 RL0 "Low Reference Terminal for Potentiometer 0", 9 RH0 "High Reference Terminal for Potentiometer 0", 10 RW0 "Wiper Terminal for Potentiometer 0", 11 A2 (in) "Device Address", 12 ~{WP} (in) "Write Protection", 13 SDA (io) "Serial Data Input/Output", 14 A1 (in) "Device Address", 15 RL1 "Low Reference Terminal for Potentiometer 1", 16 RH1 "High Reference Terminal for Potentiometer 1", 17 RW1 "Wiper Terminal for Potentiometer 1", 18 GND (power) "Ground", 19 NC "No Connect", 20 RW2 "Wiper Terminal forPotentiometer 2", 21 RH2 "High Reference Terminal for Potentiometer 2", 22 RL2 "Low Reference Terminal for Potentiometer 2", 23 SCL (in) "Bus Serial Clock", 24 A3 (in) "Device Address"

## CAT5259WI-00-T1
designator U?
Quad Digital Potentiometer (POT) with 256 Tap and I2C Interface, -40 to 85 degC, 24-Pin SOIC, Pb-Free, Tape and Reel; Manufacturer: On Semiconductor; PartNumber: CAT5259WI-00-T1; # of Pots: 4; # of Taps: 256; VDD Max (V): 6; DatasheetVersion: Rev. 11; PackageVersion: Rev. O, 12/2008; PackageReference: SOIC-24-751BK-01; PackageDescription: 24-Pin Small Outline Integrated Circuit, Body 15.3 x 7.47 mm, Pitch 1.27 mm; Supplier 1: Digi-Key; Supplier Part Number 1: CAT5259WI-00-T1-ND; Supplier 2: Mouser; Supplier Part Number 2: 863-CAT5259WI-00-T1; Control Interface: I2C; Packing: Tape and Reel; RoHS: TRUE; Type: Potentiometer; Mounting Technology: Surface Mount; Code_JEDEC: MS-013; ComponentLink1Description: Manufacturer URL; ComponentLink1URL: http://www.onsemi.com/; ComponentLink2Description: Datasheet; ComponentLink2URL: http://www.onsemi.cn/pub_link/Collateral/CAT5259-D.PDF; ComponentLink3Description: Package Specification; ComponentLink3URL: http://www.onsemi.com/pub/Collateral/751BK.PDF
footprint ONSC-SOIC-24-751BK-01_N (SOIC, 24-Leads, Body 15.4x7.6mm, Pitch 1.27mm, IPC Medium Density)
footprint ONSC-SOIC-24-751BK-01_L (SOIC, 24-Leads, Body 15.4x7.6mm, Pitch 1.27mm, IPC High Density)
footprint ONSC-SOIC-24-751BK-01_M (SOIC, 24-Leads, Body 15.4x7.6mm, Pitch 1.27mm, IPC Low Density)
pins: 1 NC "No Connect", 2 A0 (in) "Device Address, LSB", 3 RW3 "Wiper Terminal for Potentiometer 3", 4 RH3 "High Reference Terminal for Potentiometer 3", 5 RL3 "Low Reference Terminal for Potentiometer 3", 6 NC "No Connect", 7 VCC (power) "Supply Voltage", 8 RL0 "Low Reference Terminal for Potentiometer 0", 9 RH0 "High Reference Terminal for Potentiometer 0", 10 RW0 "Wiper Terminal for Potentiometer 0", 11 A2 (in) "Device Address", 12 ~{WP} (in) "Write Protection", 13 SDA (io) "Serial Data Input/Output", 14 A1 (in) "Device Address", 15 RL1 "Low Reference Terminal for Potentiometer 1", 16 RH1 "High Reference Terminal for Potentiometer 1", 17 RW1 "Wiper Terminal for Potentiometer 1", 18 GND (power) "Ground", 19 NC "No Connect", 20 RW2 "Wiper Terminal forPotentiometer 2", 21 RH2 "High Reference Terminal for Potentiometer 2", 22 RL2 "Low Reference Terminal for Potentiometer 2", 23 SCL (in) "Bus Serial Clock", 24 A3 (in) "Device Address"

## CAT5259WI-50-T1
designator U?
Quad Digital Potentiometer (POT) with 256 Tap and I2C Interface, -40 to 85 degC, 24-Pin SOIC, Pb-Free, Tape and Reel; Manufacturer: On Semiconductor; PartNumber: CAT5259WI-50-T1; # of Pots: 4; # of Taps: 256; VDD Max (V): 6; DatasheetVersion: Rev. 11; PackageVersion: Rev. O, 12/2008; PackageReference: SOIC-24-751BK-01; PackageDescription: 24-Pin Small Outline Integrated Circuit, Body 15.3 x 7.47 mm, Pitch 1.27 mm; Supplier 1: Digi-Key; Supplier Part Number 1: CAT5259WI-50-T1-ND; Supplier 2: Mouser; Supplier Part Number 2: 863-CAT5259WI-50-T1; Control Interface: I2C; Packing: Tape and Reel; RoHS: TRUE; Type: Potentiometer; Mounting Technology: Surface Mount; Code_JEDEC: MS-013; ComponentLink1Description: Manufacturer URL; ComponentLink1URL: http://www.onsemi.com/; ComponentLink2Description: Datasheet; ComponentLink2URL: http://www.onsemi.cn/pub_link/Collateral/CAT5259-D.PDF; ComponentLink3Description: Package Specification; ComponentLink3URL: http://www.onsemi.com/pub/Collateral/751BK.PDF
footprint ONSC-SOIC-24-751BK-01_N (SOIC, 24-Leads, Body 15.4x7.6mm, Pitch 1.27mm, IPC Medium Density)
footprint ONSC-SOIC-24-751BK-01_L (SOIC, 24-Leads, Body 15.4x7.6mm, Pitch 1.27mm, IPC High Density)
footprint ONSC-SOIC-24-751BK-01_M (SOIC, 24-Leads, Body 15.4x7.6mm, Pitch 1.27mm, IPC Low Density)
pins: 1 NC "No Connect", 2 A0 (in) "Device Address, LSB", 3 RW3 "Wiper Terminal for Potentiometer 3", 4 RH3 "High Reference Terminal for Potentiometer 3", 5 RL3 "Low Reference Terminal for Potentiometer 3", 6 NC "No Connect", 7 VCC (power) "Supply Voltage", 8 RL0 "Low Reference Terminal for Potentiometer 0", 9 RH0 "High Reference Terminal for Potentiometer 0", 10 RW0 "Wiper Terminal for Potentiometer 0", 11 A2 (in) "Device Address", 12 ~{WP} (in) "Write Protection", 13 SDA (io) "Serial Data Input/Output", 14 A1 (in) "Device Address", 15 RL1 "Low Reference Terminal for Potentiometer 1", 16 RH1 "High Reference Terminal for Potentiometer 1", 17 RW1 "Wiper Terminal for Potentiometer 1", 18 GND (power) "Ground", 19 NC "No Connect", 20 RW2 "Wiper Terminal forPotentiometer 2", 21 RH2 "High Reference Terminal for Potentiometer 2", 22 RL2 "Low Reference Terminal for Potentiometer 2", 23 SCL (in) "Bus Serial Clock", 24 A3 (in) "Device Address"

## CAT5259YI00
designator U?
Quad Digital Potentiometer (POT) with 256 Tap and I2C Interface, -40 to 85 degC, 24-Pin TSSOP, Pb-Free, Tube; Manufacturer: On Semiconductor; PartNumber: CAT5259YI00; # of Pots: 4; # of Taps: 256; VDD Max (V): 6; DatasheetVersion: Rev. 11; PackageVersion: Rev. A, 03/2009; PackageReference: TSSOP-24-948AR-01; PackageDescription: 24-Pin Small Outline Package, Body 7.8 x 4.4 mm, Pitch 0.65 mm; Supplier 1: Mouser; Supplier Part Number 1: 698-CAT5259YI-00; Control Interface: I2C; Packing: Tube; RoHS: TRUE; Type: Potentiometer; Mounting Technology: Surface Mount; Code_JEDEC: MO-153; ComponentLink1Description: Manufacturer URL; ComponentLink1URL: http://www.onsemi.com/; ComponentLink2Description: Datasheet; ComponentLink2URL: http://www.onsemi.cn/pub_link/Collateral/CAT5259-D.PDF; ComponentLink3Description: Package Specification; ComponentLink3URL: http://www.onsemi.com/pub_link/Collateral/948AR.PDF
footprint ONSC-TSSOP-24-948AR-01_N (SOP, 24-Leads, Body 7.9x4.5mm, Pitch 0.65mm, IPC Medium Density)
footprint ONSC-TSSOP-24-948AR-01_L (SOP, 24-Leads, Body 7.9x4.5mm, Pitch 0.65mm, IPC High Density)
footprint ONSC-TSSOP-24-948AR-01_M (SOP, 24-Leads, Body 7.9x4.5mm, Pitch 0.65mm, IPC Low Density)
pins: 1 NC "No Connect", 2 A0 (in) "Device Address, LSB", 3 RW3 "Wiper Terminal for Potentiometer 3", 4 RH3 "High Reference Terminal for Potentiometer 3", 5 RL3 "Low Reference Terminal for Potentiometer 3", 6 NC "No Connect", 7 VCC (power) "Supply Voltage", 8 RL0 "Low Reference Terminal for Potentiometer 0", 9 RH0 "High Reference Terminal for Potentiometer 0", 10 RW0 "Wiper Terminal for Potentiometer 0", 11 A2 (in) "Device Address", 12 ~{WP} (in) "Write Protection", 13 SDA (io) "Serial Data Input/Output", 14 A1 (in) "Device Address", 15 RL1 "Low Reference Terminal for Potentiometer 1", 16 RH1 "High Reference Terminal for Potentiometer 1", 17 RW1 "Wiper Terminal for Potentiometer 1", 18 GND (power) "Ground", 19 NC "No Connect", 20 RW2 "Wiper Terminal forPotentiometer 2", 21 RH2 "High Reference Terminal for Potentiometer 2", 22 RL2 "Low Reference Terminal for Potentiometer 2", 23 SCL (in) "Bus Serial Clock", 24 A3 (in) "Device Address"

## CAT5259YI50
designator U?
Quad Digital Potentiometer (POT) with 256 Tap and I2C Interface, -40 to 85 degC, 24-Pin TSSOP, Pb-Free, Tube; Manufacturer: On Semiconductor; PartNumber: CAT5259YI50; # of Pots: 4; # of Taps: 256; VDD Max (V): 6; DatasheetVersion: Rev. 11; PackageVersion: Rev. A, 03/2009; PackageReference: TSSOP-24-948AR-01; PackageDescription: 24-Pin Small Outline Package, Body 7.8 x 4.4 mm, Pitch 0.65 mm; Supplier 1: Mouser; Supplier Part Number 1: 698-CAT5259YI-50; Control Interface: I2C; Packing: Tube; RoHS: TRUE; Type: Potentiometer; Mounting Technology: Surface Mount; Code_JEDEC: MO-153; ComponentLink1Description: Manufacturer URL; ComponentLink1URL: http://www.onsemi.com/; ComponentLink2Description: Datasheet; ComponentLink2URL: http://www.onsemi.cn/pub_link/Collateral/CAT5259-D.PDF; ComponentLink3Description: Package Specification; ComponentLink3URL: http://www.onsemi.com/pub_link/Collateral/948AR.PDF
footprint ONSC-TSSOP-24-948AR-01_N (SOP, 24-Leads, Body 7.9x4.5mm, Pitch 0.65mm, IPC Medium Density)
footprint ONSC-TSSOP-24-948AR-01_L (SOP, 24-Leads, Body 7.9x4.5mm, Pitch 0.65mm, IPC High Density)
footprint ONSC-TSSOP-24-948AR-01_M (SOP, 24-Leads, Body 7.9x4.5mm, Pitch 0.65mm, IPC Low Density)
pins: 1 NC "No Connect", 2 A0 (in) "Device Address, LSB", 3 RW3 "Wiper Terminal for Potentiometer 3", 4 RH3 "High Reference Terminal for Potentiometer 3", 5 RL3 "Low Reference Terminal for Potentiometer 3", 6 NC "No Connect", 7 VCC (power) "Supply Voltage", 8 RL0 "Low Reference Terminal for Potentiometer 0", 9 RH0 "High Reference Terminal for Potentiometer 0", 10 RW0 "Wiper Terminal for Potentiometer 0", 11 A2 (in) "Device Address", 12 ~{WP} (in) "Write Protection", 13 SDA (io) "Serial Data Input/Output", 14 A1 (in) "Device Address", 15 RL1 "Low Reference Terminal for Potentiometer 1", 16 RH1 "High Reference Terminal for Potentiometer 1", 17 RW1 "Wiper Terminal for Potentiometer 1", 18 GND (power) "Ground", 19 NC "No Connect", 20 RW2 "Wiper Terminal forPotentiometer 2", 21 RH2 "High Reference Terminal for Potentiometer 2", 22 RL2 "Low Reference Terminal for Potentiometer 2", 23 SCL (in) "Bus Serial Clock", 24 A3 (in) "Device Address"

## CAT5259YI-00-T2
designator U?
Quad Digital Potentiometer (POT) with 256 Tap and I2C Interface, -40 to 85 degC, 24-Pin TSSOP, Pb-Free, Tape and Reel; Manufacturer: On Semiconductor; PartNumber: CAT5259YI-00-T2; # of Pots: 4; # of Taps: 256; VDD Max (V): 6; DatasheetVersion: Rev. 11; PackageVersion: Rev. A, 03/2009; PackageReference: TSSOP-24-948AR-01; PackageDescription: 24-Pin Small Outline Package, Body 7.8 x 4.4 mm, Pitch 0.65 mm; Supplier 1: Digi-Key; Supplier Part Number 1: CAT5259YI-00-T2-ND; Supplier 2: Mouser; Supplier Part Number 2: 863-CAT5259YI-00-T2; Control Interface: I2C; Packing: Tape and Reel; RoHS: TRUE; Type: Potentiometer; Mounting Technology: Surface Mount; Code_JEDEC: MO-153; ComponentLink1Description: Manufacturer URL; ComponentLink1URL: http://www.onsemi.com/; ComponentLink2Description: Datasheet; ComponentLink2URL: http://www.onsemi.cn/pub_link/Collateral/CAT5259-D.PDF; ComponentLink3Description: Package Specification; ComponentLink3URL: http://www.onsemi.com/pub_link/Collateral/948AR.PDF
footprint ONSC-TSSOP-24-948AR-01_N (SOP, 24-Leads, Body 7.9x4.5mm, Pitch 0.65mm, IPC Medium Density)
footprint ONSC-TSSOP-24-948AR-01_L (SOP, 24-Leads, Body 7.9x4.5mm, Pitch 0.65mm, IPC High Density)
footprint ONSC-TSSOP-24-948AR-01_M (SOP, 24-Leads, Body 7.9x4.5mm, Pitch 0.65mm, IPC Low Density)
pins: 1 NC "No Connect", 2 A0 (in) "Device Address, LSB", 3 RW3 "Wiper Terminal for Potentiometer 3", 4 RH3 "High Reference Terminal for Potentiometer 3", 5 RL3 "Low Reference Terminal for Potentiometer 3", 6 NC "No Connect", 7 VCC (power) "Supply Voltage", 8 RL0 "Low Reference Terminal for Potentiometer 0", 9 RH0 "High Reference Terminal for Potentiometer 0", 10 RW0 "Wiper Terminal for Potentiometer 0", 11 A2 (in) "Device Address", 12 ~{WP} (in) "Write Protection", 13 SDA (io) "Serial Data Input/Output", 14 A1 (in) "Device Address", 15 RL1 "Low Reference Terminal for Potentiometer 1", 16 RH1 "High Reference Terminal for Potentiometer 1", 17 RW1 "Wiper Terminal for Potentiometer 1", 18 GND (power) "Ground", 19 NC "No Connect", 20 RW2 "Wiper Terminal forPotentiometer 2", 21 RH2 "High Reference Terminal for Potentiometer 2", 22 RL2 "Low Reference Terminal for Potentiometer 2", 23 SCL (in) "Bus Serial Clock", 24 A3 (in) "Device Address"

## CAT5259YI-50-T2
designator U?
Quad Digital Potentiometer (POT) with 256 Tap and I2C Interface, -40 to 85 degC, 24-Pin TSSOP, Pb-Free, Tape and Reel; Manufacturer: On Semiconductor; PartNumber: CAT5259YI-50-T2; # of Pots: 4; # of Taps: 256; VDD Max (V): 6; DatasheetVersion: Rev. 11; PackageVersion: Rev. A, 03/2009; PackageReference: TSSOP-24-948AR-01; PackageDescription: 24-Pin Small Outline Package, Body 7.8 x 4.4 mm, Pitch 0.65 mm; Supplier 1: Digi-Key; Supplier Part Number 1: CAT5259YI-50-T2-ND; Supplier 2: Mouser; Supplier Part Number 2: 863-CAT5259YI-50-T2; Control Interface: I2C; Packing: Tape and Reel; RoHS: TRUE; Type: Potentiometer; Mounting Technology: Surface Mount; Code_JEDEC: MO-153; ComponentLink1Description: Manufacturer URL; ComponentLink1URL: http://www.onsemi.com/; ComponentLink2Description: Datasheet; ComponentLink2URL: http://www.onsemi.cn/pub_link/Collateral/CAT5259-D.PDF; ComponentLink3Description: Package Specification; ComponentLink3URL: http://www.onsemi.com/pub_link/Collateral/948AR.PDF
footprint ONSC-TSSOP-24-948AR-01_N (SOP, 24-Leads, Body 7.9x4.5mm, Pitch 0.65mm, IPC Medium Density)
footprint ONSC-TSSOP-24-948AR-01_L (SOP, 24-Leads, Body 7.9x4.5mm, Pitch 0.65mm, IPC High Density)
footprint ONSC-TSSOP-24-948AR-01_M (SOP, 24-Leads, Body 7.9x4.5mm, Pitch 0.65mm, IPC Low Density)
pins: 1 NC "No Connect", 2 A0 (in) "Device Address, LSB", 3 RW3 "Wiper Terminal for Potentiometer 3", 4 RH3 "High Reference Terminal for Potentiometer 3", 5 RL3 "Low Reference Terminal for Potentiometer 3", 6 NC "No Connect", 7 VCC (power) "Supply Voltage", 8 RL0 "Low Reference Terminal for Potentiometer 0", 9 RH0 "High Reference Terminal for Potentiometer 0", 10 RW0 "Wiper Terminal for Potentiometer 0", 11 A2 (in) "Device Address", 12 ~{WP} (in) "Write Protection", 13 SDA (io) "Serial Data Input/Output", 14 A1 (in) "Device Address", 15 RL1 "Low Reference Terminal for Potentiometer 1", 16 RH1 "High Reference Terminal for Potentiometer 1", 17 RW1 "Wiper Terminal for Potentiometer 1", 18 GND (power) "Ground", 19 NC "No Connect", 20 RW2 "Wiper Terminal forPotentiometer 2", 21 RH2 "High Reference Terminal for Potentiometer 2", 22 RL2 "Low Reference Terminal for Potentiometer 2", 23 SCL (in) "Bus Serial Clock", 24 A3 (in) "Device Address"